# EAGLE library part TCA9539PWR (library tca9539)
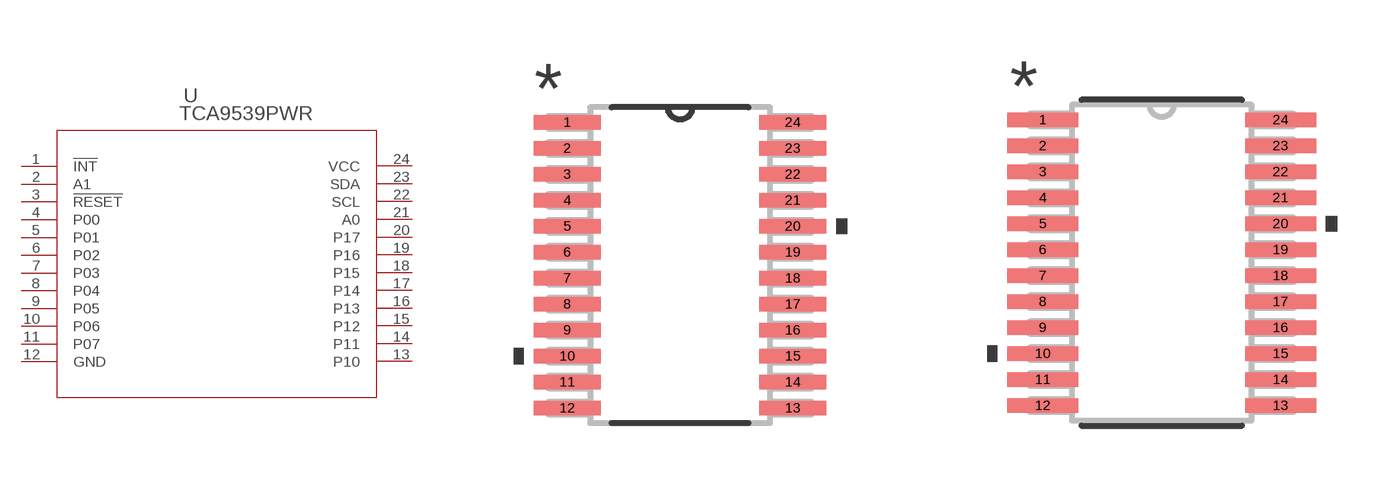
[diagram p0: symbol with the pads of PW24; footprints PW24, PW24-M]

Designator prefix U

## TCA9539PWRPW24 (Copyright: Copyright (C) 2023 Ultra Librarian. All rights reserved.; Manufacturer_Part_Number: TCA9539PWR; Mfr_Name: Texas Instruments)  [PW24]
1  !INT  out
2  A1  in
3  !RESET  in
4  P00
5  P01
6  P02
7  P03
8  P04
9  P05
10  P06
11  P07
12  GND  pwr
13  P10
14  P11
15  P12
16  P13
17  P14
18  P15
19  P16
20  P17
21  A0  in
22  SCL
23  SDA
24  VCC  pwr

## TCA9539PWRPW24-M (Copyright: Copyright (C) 2023 Ultra Librarian. All rights reserved.; Manufacturer_Part_Number: TCA9539PWR; Mfr_Name: Texas Instruments)  [PW24-M]
Pads as for PW24

## TCA9539PWRPW24-L (Copyright: Copyright (C) 2023 Ultra Librarian. All rights reserved.; Manufacturer_Part_Number: TCA9539PWR; Mfr_Name: Texas Instruments)  [PW24-L]
Pads as for PW24

## Footprint PW24 (pad centres in mm)
smd 1.676 x 0.356: 1 -2.819,3.575; 2 -2.819,2.925; 3 -2.819,2.275; 4 -2.819,1.625; 5 -2.819,0.975; 6 -2.819,0.325; 7 -2.819,-0.325; 8 -2.819,-0.975; 9 -2.819,-1.625; 10 -2.819,-2.275; 11 -2.819,-2.925; 12 -2.819,-3.575; 13 2.819,-3.575; 14 2.819,-2.925; 15 2.819,-2.275; 16 2.819,-1.625; 17 2.819,-0.975; 18 2.819,-0.325; 19 2.819,0.325; 20 2.819,0.975; 21 2.819,1.625; 22 2.819,2.275; 23 2.819,2.925; 24 2.819,3.575

## Footprint PW24-M (pad centres in mm)
smd 1.778 x 0.356: 1 -2.972,3.575; 2 -2.972,2.925; 3 -2.972,2.275; 4 -2.972,1.625; 5 -2.972,0.975; 6 -2.972,0.325; 7 -2.972,-0.325; 8 -2.972,-0.975; 9 -2.972,-1.625; 10 -2.972,-2.275; 11 -2.972,-2.925; 12 -2.972,-3.575; 13 2.972,-3.575; 14 2.972,-2.925; 15 2.972,-2.275; 16 2.972,-1.625; 17 2.972,-0.975; 18 2.972,-0.325; 19 2.972,0.325; 20 2.972,0.975; 21 2.972,1.625; 22 2.972,2.275; 23 2.972,2.925; 24 2.972,3.575

## Footprint PW24-L (pad centres in mm)
smd 1.168 x 0.305: 1 -2.87,3.575; 2 -2.87,2.925; 3 -2.87,2.275; 4 -2.87,1.625; 5 -2.87,0.975; 6 -2.87,0.325; 7 -2.87,-0.325; 8 -2.87,-0.975; 9 -2.87,-1.625; 10 -2.87,-2.275; 11 -2.87,-2.925; 12 -2.87,-3.575; 13 2.87,-3.575; 14 2.87,-2.925; 15 2.87,-2.275; 16 2.87,-1.625; 17 2.87,-0.975; 18 2.87,-0.325; 19 2.87,0.325; 20 2.87,0.975; 21 2.87,1.625; 22 2.87,2.275; 23 2.87,2.925; 24 2.87,3.575